# Altium footprint library RP3_V302.PcbLib: 39 footprints (part 1 of 3)
Each footprint in its own frame and in the unit in brackets; x right, y up, seen from the top. Pads: shape width x height; smd on the part's side, far side on the other; paste and mask are expansions set on the pad; w line width, h text height; cw(c..) or ccw(c..) is an arc to the next point about the centre after c.
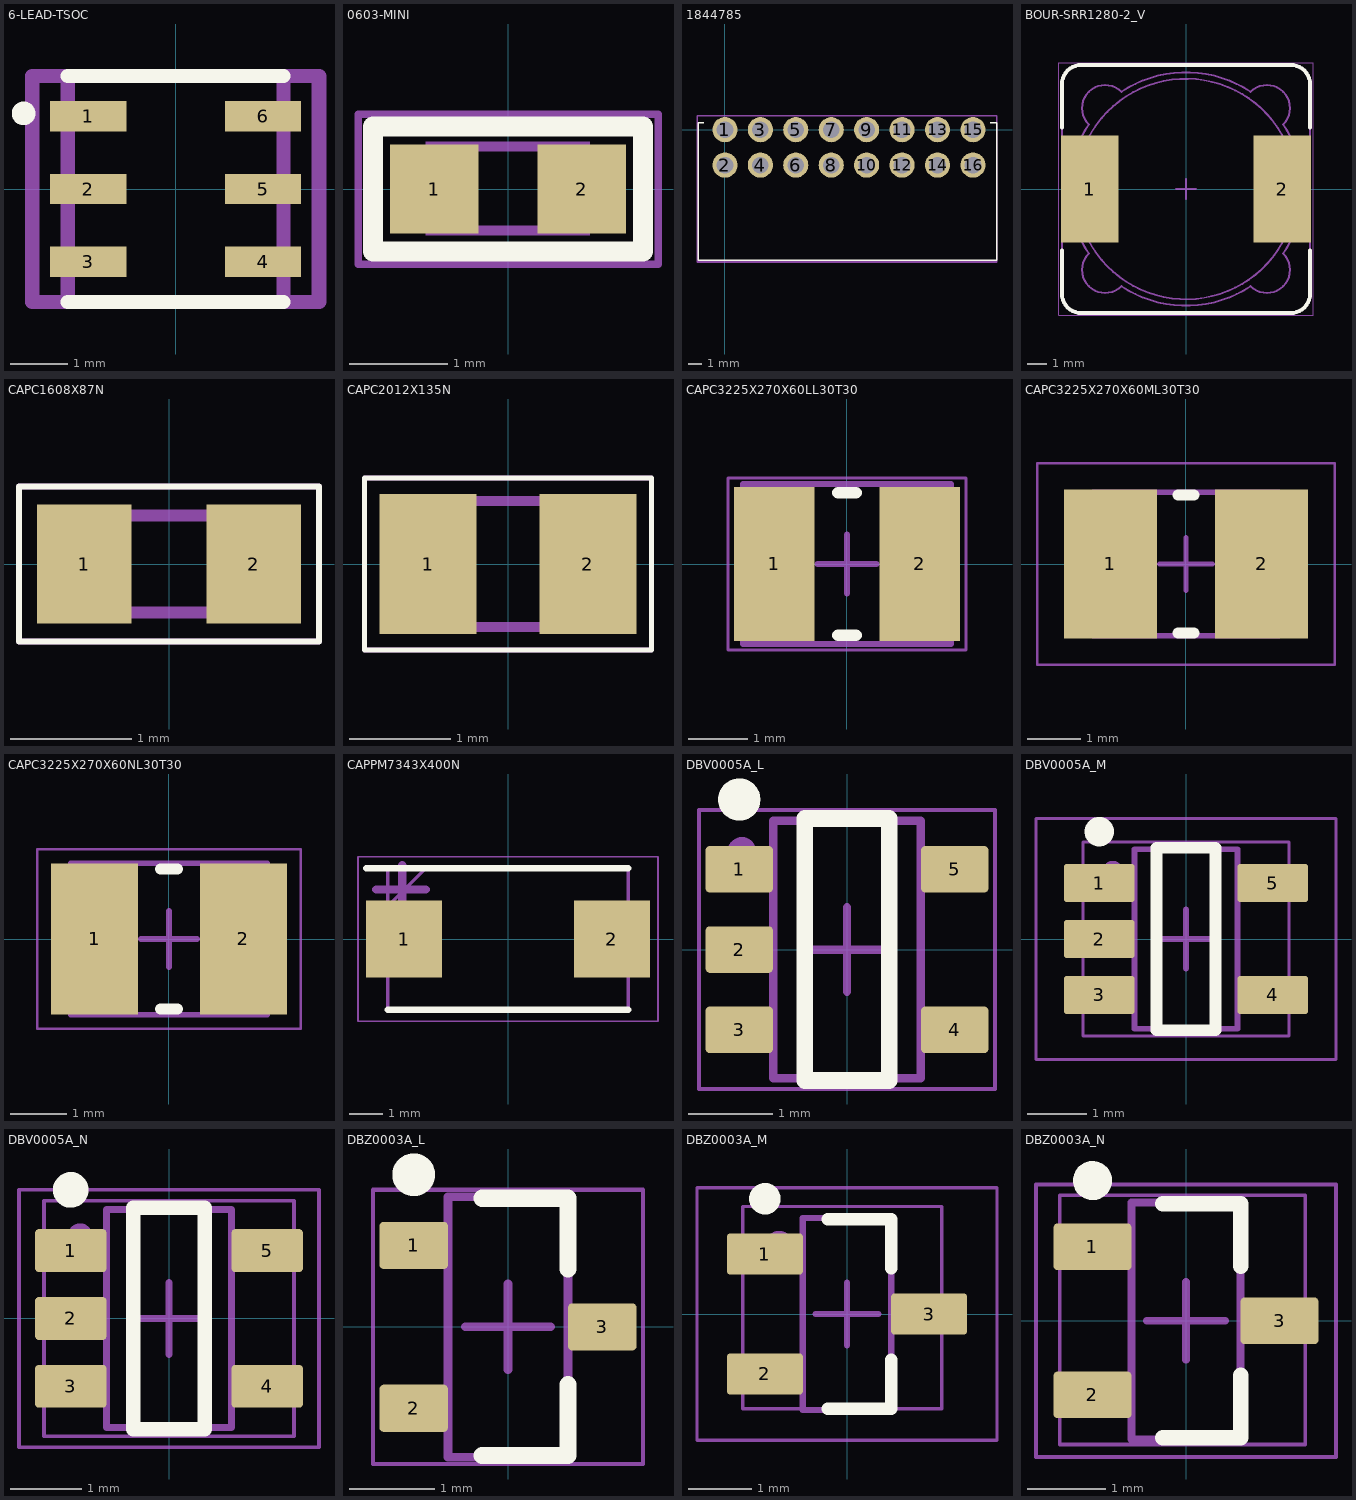
[diagram p0: the footprints below, top view; thin cyan lines are the x and y axes]

## 6-LEAD-TSOC [mm]
pads (6):
  rect 1.33x0.53 smd: 1(-1.525,1.27) 2(-1.525,0) 3(-1.525,-1.27) 4(1.525,-1.27) 5(1.525,0) 6(1.525,1.27)
Top Overlay:
  circle w0.25: c-2.652,1.319 r0.081
  lines w0.25: -1.88,-1.97 1.88,-1.97 ; -1.88,1.97 1.88,1.97
Mechanical 13:
  lines w0.25: -1.88,-1.97 1.88,-1.97 1.88,1.97 -1.88,1.97 -1.88,-1.97
Top Assembly (Mech29):
  circle w0.25: c-1.377,1.316 r0.081
  lines w0.25: -2.5,-1.97 2.5,-1.97 ; -2.5,1.97 2.5,1.97
  lines w0.254: -2.5,-1.97 -2.5,1.97 ; 2.5,-1.97 2.5,1.97
  text "'.Designator'" at -3.965,-0.167 h0.7
3D body "6L TSOC Maxim 2.STEP": height 1.54, standoff 0, extent -2.225,-2.05 2.224,2.05

## 0603-MINI [mm] "0603-MINI"
pads (2):
  rect 0.9x0.9 smd: 1(-0.75,0) 2(0.75,0)
Top Overlay:
  lines w0.203: -1.37,-0.635 -1.37,0.635 1.37,0.635 1.37,-0.635 -1.37,-0.635
Assembly Notes:
  region: -0.838,-0.47 -0.838,0.48 -0.338,0.48 -0.338,-0.47
  region: 0.33,-0.47 0.33,0.48 0.83,0.48 0.83,-0.47
  lines w0.102: -0.356,-0.419 0.356,-0.419 ; -0.356,0.432 0.356,0.432
Top Assembly:
  lines w0.076: -1.524,-0.762 -1.524,0.762 1.524,0.762 1.524,-0.762 -1.524,-0.762
  text "'.Designator'" at -2.878,-0.212 h0.51
3D body "RES 0603.STEP": height 0.43, standoff -0.02, extent -0.8,-0.4 0.8,0.4

## 1844785 [mm]
pads (16):
  round 1.8 hole 1.2: 1(0,0) 2(0,-2.54) 3(2.54,0) 4(2.54,-2.54) 5(5.08,0) 6(5.08,-2.54) 7(7.62,0) 8(7.62,-2.54) 9(10.16,0) 10(10.16,-2.54) 11(12.7,0) 12(12.7,-2.54) 13(15.24,0) 14(15.24,-2.54) 15(17.78,0) 16(17.78,-2.54)
Top Overlay:
  lines w0.1: -1.92,0.5 -1.92,-9.347 19.5,-9.347 19.5,0.5
  lines w0.102: -1.92,0.5 -1.5,0.5 ; 19,0.5 19.5,0.5
Mechanical 15:
  lines w0.1: -2,-9.5 19.5,-9.5 19.5,1 -2,1 -2,-9.5
Top Assembly (Mech29):
  circle w0.1: c0,0 r0.4
  lines w0.1: -2,-9.403 19.5,-9.403 19.5,1 -2,1 -2,-9.403
  text "'.Designator'" at 2.1,-5.977 h1.27
3D body "pxc_1844785_03_DMC-0-5-8-G1-2-54-P20THR-R44_3D.stp": height 7.39, standoff -2, extent -1.92,-9.32 19.7,0.6

## BOUR-SRR1280-2_V [mm] "SMD, 2-Leads, Body 12.5x12.5mm"
height 7.513
pads (2):
  rect 2.9x5.4 smd: 1(-4.85,0) 2(4.85,0)
Top Overlay:
  lines w0.2: -6.25,-3.1 -6.25,-5.25 ccw(c-5.25,-5.25) -5.25,-6.25 5.25,-6.25 ccw(c5.25,-5.25) 6.25,-5.25 6.25,-3.1 ; -6.25,3.1 -6.25,5.25 cw(c-5.25,5.25) -5.25,6.25 5.25,6.25 cw(c5.25,5.25) 6.25,5.25 6.25,3.1
Mechanical 13:
  circle w0.1: c0,0 r5.55
  lines w0.1: -3.251,-4.894 ccw(c0,0) 3.251,-4.894 ; -3.251,-4.894 cw(c-4.072,-4.072) -4.894,-3.251 cw(c0,0) -4.894,3.251 cw(c-4.072,4.072) -3.251,4.894 cw(c0,0) 3.251,4.894 cw(c4.072,4.072) 4.894,3.25 cw(c0,0) 4.894,-3.251 cw(c4.072,-4.072) 3.251,-4.894 ; -6.25,-5.25 ccw(c-5.25,-5.25) -5.25,-6.25 5.25,-6.25 ccw(c5.25,-5.25) 6.25,-5.25 6.25,5.25 ccw(c5.25,5.25) 5.25,6.25 -5.25,6.25 ccw(c-5.25,5.25) -6.25,5.25 -6.25,-5.25
Mechanical 15:
  lines w0.05: -6.4,-6.35 6.4,-6.35 6.4,6.35 -6.4,6.35 -6.4,-6.35
  lines w0.1: -0.5,0 0.5,0 ; 0,-0.5 0,0.5
Top Assembly (Mech29):
  lines w0.05: -6.4,-6.35 6.4,-6.35 6.4,6.35 -6.4,6.35 -6.4,-6.35
  text "'.Designator'" at 0.292,-3.965 h0.7
3D body "srr1280.stp": height 7.51, standoff 0.01, extent -6.25,-6.25 6.25,6.25

## CAPC1608X87N [mm]
pads (2):
  rect 0.78x0.98 smd: 1(-0.7,0) 2(0.7,0)
Top Overlay:
  lines w0.05: -1.24,-0.64 -1.24,0.64 1.24,0.64 1.24,-0.64 -1.24,-0.64
Mechanical 13:
  lines w0.1: -0.8,-0.4 -0.8,0.4 0.8,0.4 0.8,-0.4 -0.8,-0.4
Mechanical 15:
  lines w0.05: -1.24,-0.64 -1.24,0.64 1.24,0.64 1.24,-0.64 -1.24,-0.64
Top Assembly (Mech29):
  lines w0.05: -1.24,-0.64 -1.24,0.64 1.24,0.64 1.24,-0.64 -1.24,-0.64
  text "'.Designator'" at -3.96,-0.222 h0.7
3D body "C0603C104K4RECTU.stp": height 0.87, standoff 0, extent -0.8,-0.4 0.8,0.4

## CAPC2012X135N [mm]
pads (2):
  rect 0.96x1.39 smd: 1(-0.79,0) 2(0.79,0)
Top Overlay:
  lines w0.05: -1.42,-0.85 -1.42,0.85 1.42,0.85 1.42,-0.85 -1.42,-0.85
Mechanical 13:
  lines w0.1: -1,-0.625 -1,0.625 1,0.625 1,-0.625 -1,-0.625
Mechanical 15:
  lines w0.05: -1.42,-0.85 -1.42,0.85 1.42,0.85 1.42,-0.85 -1.42,-0.85
Top Assembly (Mech29):
  lines w0.05: -1.42,-0.85 -1.42,0.85 1.42,0.85 1.42,-0.85 -1.42,-0.85
  text "'.Designator'" at -3.935,-0.358 h0.7
3D body "EMK212ABJ106MG-T.stp": height 1.35, standoff 0, extent -1,-0.625 1,0.625

## CAPC3225X270X60LL30T30 [mm] "Chip Capacitor, 2-Leads, Body 3.50x2.70mm, IPC High Density"
height 2.7
pads (2):
  rect 1.35x2.6 smd: 1(-1.225,0) 2(1.225,0)
Top Overlay:
  lines w0.2: -0.15,-1.2 0.15,-1.2 ; -0.15,1.2 0.15,1.2
Mechanical 13:
  lines w0.1: -1.75,-1.35 -1.75,1.35 1.75,1.35 1.75,-1.35 -1.75,-1.35
Mechanical 15:
  lines w0.05: -2,-1.45 -2,1.45 2,1.45 2,-1.45 -2,-1.45
  lines w0.1: -0.5,0 0.5,0 ; 0,-0.5 0,0.5
Top Assembly (Mech29):
  lines w0.05: -2,-1.45 -2,1.45 2,1.45 2,-1.45 -2,-1.45
  text "'.Designator'" at -3.965,-0.292 h0.7
3D body "CAPC3225X27L.step": height 2.7, standoff 0, extent -1.75,-1.35 1.75,1.35

## CAPC3225X270X60ML30T30 [mm] "Chip Capacitor, 2-Leads, Body 3.50x2.70mm, IPC Low Density"
height 2.7
pads (2):
  rect 1.75x2.8 smd: 1(-1.425,0) 2(1.425,0)
Top Overlay:
  lines w0.2: -0.15,-1.3 0.15,-1.3 ; -0.15,1.3 0.15,1.3
Mechanical 13:
  lines w0.1: -1.75,-1.35 1.75,-1.35 1.75,1.35 -1.75,1.35 -1.75,-1.35
Mechanical 15:
  lines w0.05: -2.8,-1.9 2.8,-1.9 2.8,1.9 -2.8,1.9 -2.8,-1.9
  lines w0.1: -0.5,0 0.5,0 ; 0,-0.5 0,0.5
Top Assembly (Mech29):
  lines w0.05: -2.8,-1.9 2.8,-1.9 2.8,1.9 -2.8,1.9 -2.8,-1.9
  text "'.Designator'" at -3.965,-0.292 h0.7
3D body "CAPC3225X27M.step": height 2.7, standoff 0, extent -1.75,-1.35 1.75,1.35

## CAPC3225X270X60NL30T30 [mm] "Chip Capacitor, 2-Leads, Body 3.50x2.70mm, IPC Medium Density"
height 2.7
pads (2):
  rect 1.55x2.7 smd: 1(-1.325,0) 2(1.325,0)
Top Overlay:
  lines w0.2: -0.15,-1.25 0.15,-1.25 ; -0.15,1.25 0.15,1.25
Mechanical 13:
  lines w0.1: -1.75,-1.35 1.75,-1.35 1.75,1.35 -1.75,1.35 -1.75,-1.35
Mechanical 15:
  lines w0.05: -2.35,-1.6 2.35,-1.6 2.35,1.6 -2.35,1.6 -2.35,-1.6
  lines w0.1: -0.5,0 0.5,0 ; 0,-0.5 0,0.5
Top Assembly (Mech29):
  lines w0.05: -2.35,-1.6 2.35,-1.6 2.35,1.6 -2.35,1.6 -2.35,-1.6
  text "'.Designator'" at -3.965,-0.292 h0.7
3D body "CAPC3225X27N.step": height 2.7, standoff 0, extent -1.75,-1.35 1.75,1.35

## CAPPM7343X400N [mm]
pads (2):
  rect 2.3x2.35 smd: 1(-3.15,0) 2(3.15,0)
Top Overlay:
  lines w0.2: -4.3,2.15 3.65,2.15 ; -3.65,-2.15 3.65,-2.15
Mechanical 13:
  lines w0.1: -3.65,1 -2.5,2.15 ; -3.65,-2.15 3.65,-2.15 3.65,2.15 -3.65,2.15 -3.65,-2.15
Mechanical 15:
  lines w0.05: -4.55,-2.5 4.55,-2.5 4.55,2.5 -4.55,2.5 -4.55,-2.5
Top Assembly (Mech29):
  lines w0.05: -4.55,-2.5 4.55,-2.5 4.55,2.5 -4.55,2.5 -4.55,-2.5
  lines w0.254: -4,1.5 -2.5,1.5 ; -3.21,0.71 -3.21,2.235
  text "'.Designator'" at -3.965,-0.292 h0.7
3D body "10TPB330M.stp": height 4, standoff 0, extent -3.65,-2.15 3.65,2.15

## DBV0005A_L [mm] "SOT23, 5-Leads, Body 3.05x1.75mm, Pitch 0.95mm, IPC High Density"
height 1.45
pads (5):
  rrect18% 0.8x0.55 smd: 1(-1.275,0.95) 2(-1.275,0) 3(-1.275,-0.95) 4(1.275,-0.95) 5(1.275,0.95)
Top Overlay:
  circle w0.25: c-1.275,1.775 r0.125
  lines w0.2: -0.5,-1.55 -0.5,1.55 0.5,1.55 0.5,-1.55 -0.5,-1.55
Mechanical 1:
  text ".Designator" at -0.635,-0.254 h0.4
Mechanical 13:
  lines w0.1: -0.875,-1.525 0.875,-1.525 0.875,1.525 -0.875,1.525 -0.875,-1.525
Mechanical 15:
  lines w0.05: -1.75,-1.65 1.75,-1.65 1.75,1.65 -1.75,1.65 -1.75,-1.65
  lines w0.1: -0.5,0 0.5,0 ; 0,-0.5 0,0.5
Top Assembly (Mech29):
  circle w0.254: c-1.245,1.16 r0.043
  lines w0.05: -1.75,-1.65 1.75,-1.65 1.75,1.65 -1.75,1.65 -1.75,-1.65
  text "'.Designator'" at 0.237,-4.126 h0.7
3D body "DBV0005AaksMF05A.stp": height 1.08, standoff -0.01, extent -1.422,-1.461 1.422,1.46

## DBV0005A_M [mm] "SOT23, 5-Leads, Body 3.05x1.75mm, Pitch 0.95mm, IPC Low Density"
height 1.45
pads (5):
  rrect15% 1.2x0.65 smd: 1(-1.475,0.95) 2(-1.475,0) 3(-1.475,-0.95) 4(1.475,-0.95) 5(1.475,0.95)
Top Overlay:
  circle w0.25: c-1.475,1.825 r0.125
  lines w0.2: -0.5,-1.55 0.5,-1.55 0.5,1.55 -0.5,1.55 -0.5,-1.55
Mechanical 1:
  text ".Designator" at -0.635,-0.127 h0.4
Mechanical 13:
  lines w0.1: -0.875,-1.525 -0.875,1.525 0.875,1.525 0.875,-1.525 -0.875,-1.525
Mechanical 15:
  lines w0.05: -2.55,-2.05 -2.55,2.05 2.55,2.05 2.55,-2.05 -2.55,-2.05
  lines w0.1: -0.5,0 0.5,0 ; 0,-0.5 0,0.5
Top Assembly (Mech29):
  circle w0.254: c-1.245,1.16 r0.043
  lines w0.05: -1.75,-1.65 -1.75,1.65 1.75,1.65 1.75,-1.65 -1.75,-1.65
  text "'.Designator'" at 0.266,-1.501 h0.7
3D body "DBV0005AaksMF05A.stp": height 1.08, standoff -0.01, extent -1.422,-1.461 1.422,1.46

## DBV0005A_N [mm] "SOT23, 5-Leads, Body 3.05x1.75mm, Pitch 0.95mm, IPC Medium Density"
height 1.45
pads (5):
  rrect17% 1x0.6 smd: 1(-1.375,0.95) 2(-1.375,0) 3(-1.375,-0.95) 4(1.375,-0.95) 5(1.375,0.95)
Top Overlay:
  circle w0.25: c-1.375,1.8 r0.125
  lines w0.2: -0.5,-1.55 0.5,-1.55 0.5,1.55 -0.5,1.55 -0.5,-1.55
Mechanical 1:
  text ".Designator" at -0.635,-0.254 h0.4
Mechanical 13:
  lines w0.1: -0.875,-1.525 -0.875,1.525 0.875,1.525 0.875,-1.525 -0.875,-1.525
Mechanical 15:
  lines w0.05: -2.1,-1.8 -2.1,1.8 2.1,1.8 2.1,-1.8 -2.1,-1.8
  lines w0.1: -0.5,0 0.5,0 ; 0,-0.5 0,0.5
Top Assembly (Mech29):
  circle w0.254: c-1.245,1.16 r0.043
  lines w0.05: -1.75,-1.65 -1.75,1.65 1.75,1.65 1.75,-1.65 -1.75,-1.65
  text "'.Designator'" at 0.266,-1.501 h0.7
3D body "DBV0005AaksMF05A.stp": height 1.08, standoff -0.01, extent -1.422,-1.461 1.422,1.46

## DBZ0003A_L [mm] "SOT23, 3-Leads, Body 3.04x1.4mm, Pitch 0.95mm, IPC High Density"
height 1.12
pads (3):
  rrect18% 0.8x0.55 smd: 1(-1.1,0.95) 2(-1.1,-0.95) 3(1.1,0)
Top Overlay:
  circle w0.25: c-1.1,1.775 r0.125
  lines w0.2: -0.3,-1.5 0.7,-1.5 0.7,-0.675 ; -0.3,1.5 0.7,1.5 0.7,0.675
Mechanical 1:
  text ".Designator" at -0.508,-0.127 h0.35
Mechanical 13:
  lines w0.1: -0.7,-1.52 -0.7,1.52 0.7,1.52 0.7,-1.52 -0.7,-1.52
Mechanical 15:
  lines w0.05: -1.575,-1.6 -1.575,1.6 1.575,1.6 1.575,-1.6 -1.575,-1.6
  lines w0.1: -0.5,0 0.5,0 ; 0,-0.5 0,0.5
Top Assembly (Mech29):
  circle w0.254: c-1,1 r0.089
  lines w0.05: -1.575,-1.6 -1.575,1.6 1.575,1.6 1.575,-1.6 -1.575,-1.6
  text ".Designator" at -0.233,3.499 h0.7
3D body "DBZ0003AakaMF03A.stp": height 0.96, standoff -0.02, extent -1.257,-1.461 1.257,1.46

## DBZ0003A_M [mm] "SOT23, 3-Leads, Body 3.04x1.4mm, Pitch 0.95mm, IPC Low Density"
height 1.12
pads (3):
  rrect15% 1.2x0.65 smd: 1(-1.3,0.95) 2(-1.3,-0.95) 3(1.3,0)
Top Overlay:
  circle w0.25: c-1.3,1.825 r0.125
  lines w0.2: -0.3,-1.5 0.7,-1.5 0.7,-0.725 ; -0.3,1.5 0.7,1.5 0.7,0.725
Mechanical 1:
  text ".Designator" at -0.508,-0.127 h0.35
Mechanical 13:
  lines w0.1: -0.7,-1.52 -0.7,1.52 0.7,1.52 0.7,-1.52 -0.7,-1.52
Mechanical 15:
  lines w0.05: -2.375,-2 -2.375,2 2.375,2 2.375,-2 -2.375,-2
  lines w0.1: -0.5,0 0.5,0 ; 0,-0.5 0,0.5
Top Assembly (Mech29):
  circle w0.254: c-1.075,1.1 r0.089
  lines w0.05: -1.65,-1.5 1.5,-1.5 1.5,1.7 -1.65,1.7 -1.65,-1.5
  text ".Designator" at -0.172,3.761 h0.7
3D body "DBZ0003AakaMF03A.stp": height 0.96, standoff -0.02, extent -1.257,-1.461 1.257,1.46

## DBZ0003A_N [mm] "SOT23, 3-Leads, Body 3.04x1.4mm, Pitch 0.95mm, IPC Medium Density"
height 1.12
pads (3):
  rrect17% 1x0.6 smd: 1(-1.2,0.95) 2(-1.2,-0.95) 3(1.2,0)
Top Overlay:
  circle w0.25: c-1.2,1.8 r0.125
  lines w0.2: -0.3,-1.5 0.7,-1.5 0.7,-0.7 ; -0.3,1.5 0.7,1.5 0.7,0.7
Mechanical 1:
  text ".Designator" at -0.508,-0.127 h0.35
Mechanical 13:
  lines w0.1: -0.7,-1.52 0.7,-1.52 0.7,1.52 -0.7,1.52 -0.7,-1.52
Mechanical 15:
  lines w0.05: -1.925,-1.75 1.925,-1.75 1.925,1.75 -1.925,1.75 -1.925,-1.75
  lines w0.1: -0.5,0 0.5,0 ; 0,-0.5 0,0.5
Top Assembly (Mech29):
  circle w0.254: c-1.045,1.011 r0.089
  lines w0.05: -1.62,-1.589 1.53,-1.589 1.53,1.611 -1.62,1.611 -1.62,-1.589
  text ".Designator" at -0.221,3.457 h0.7
3D body "DBZ0003AakaMF03A.stp": height 0.96, standoff -0.02, extent -1.257,-1.461 1.257,1.46